# Altium footprint library Diod.PcbLib: 392 footprints (part 16 of 25)
Each footprint in its own frame and in the unit in brackets; x right, y up, seen from the top. Pads: shape width x height; smd on the part's side, far side on the other; paste and mask are expansions set on the pad; w line width, h text height; cw(c..) or ccw(c..) is an arc to the next point about the centre after c.
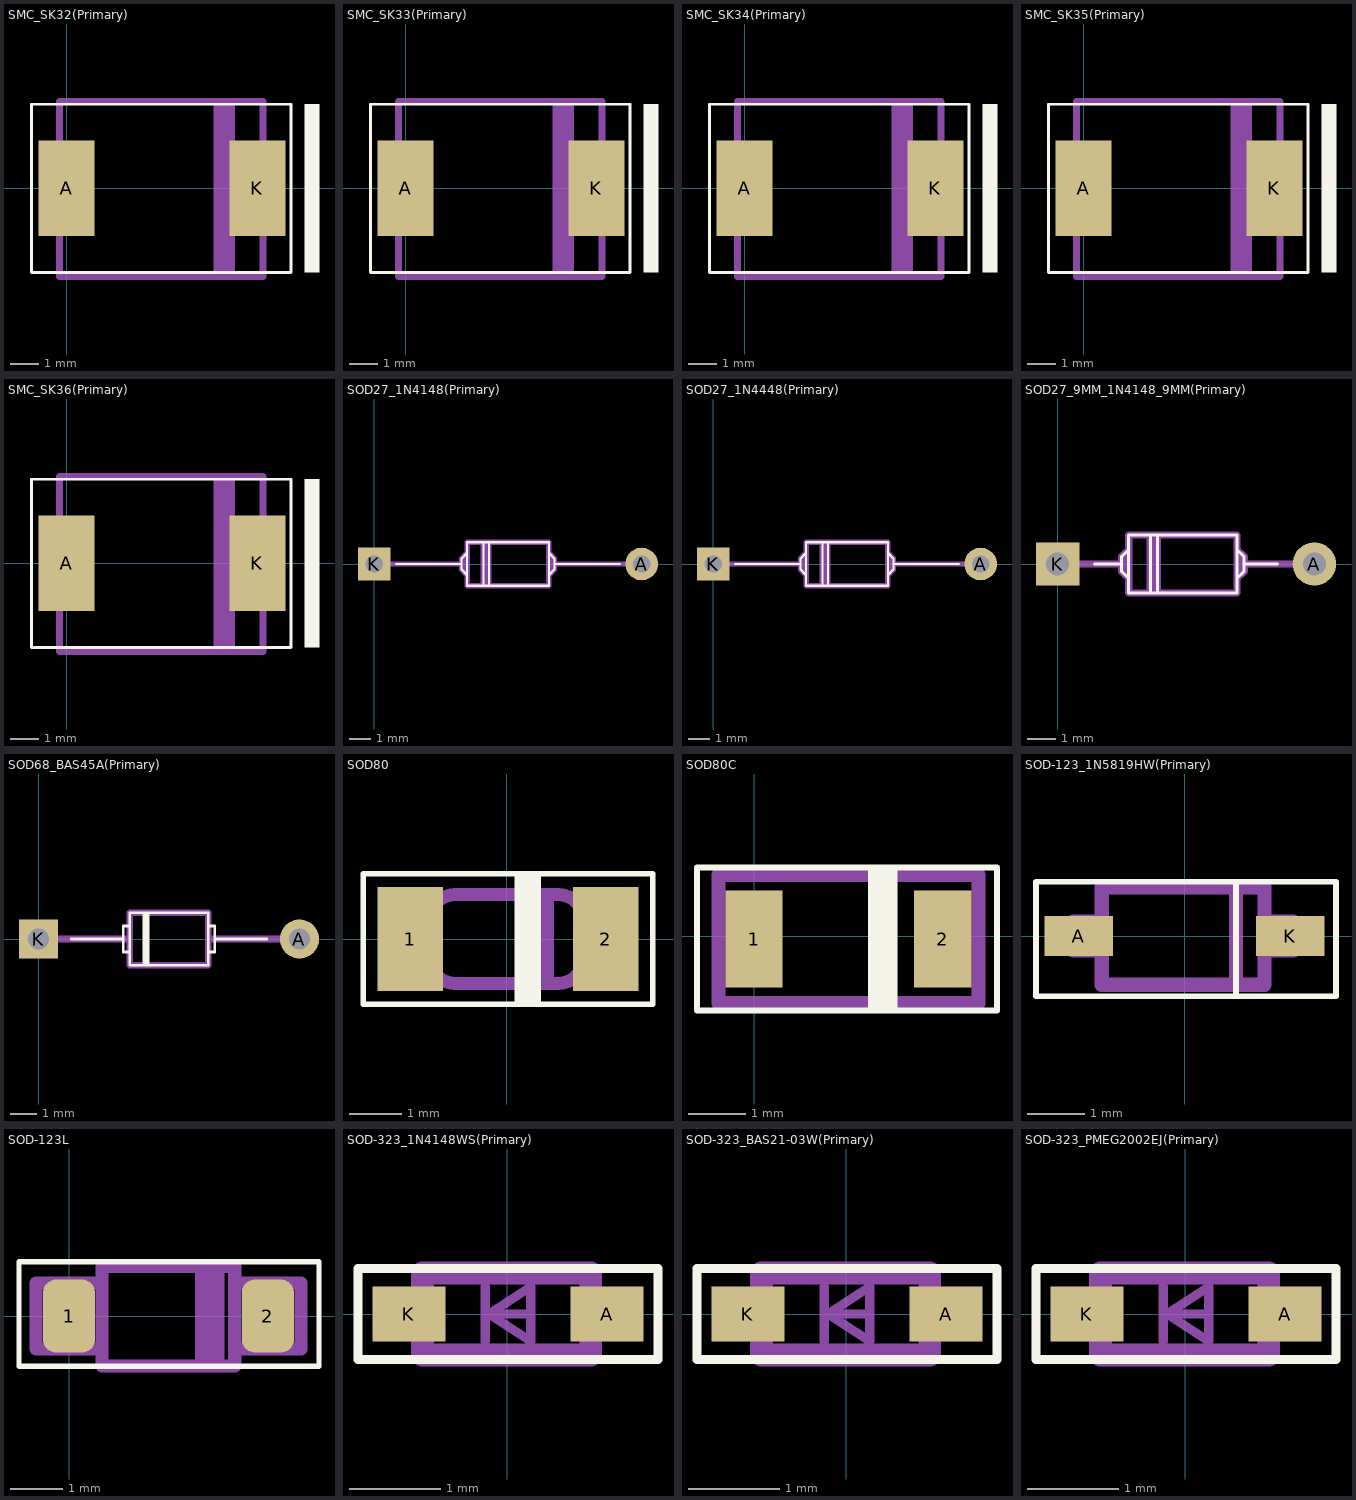
[diagram p15: the footprints below, top view; thin cyan lines are the x and y axes]

## SMC_SK32(Primary) [mm]
pads (2):
  rect 2x3.4 smd: A(0,0) K(6.8,0)
Top Overlay:
  region: 8.5,3 8.5,-3 9,-3 9,3
  lines w0.1: -1.25,-3 8,-3 8,3 -1.25,3 -1.25,-3
Mechanical 1:
  region: 5.25,3 5.25,-3 6,-3 6,3
  lines w0.25: -0.25,-3.15 7,-3.15 7,3.1 -0.25,3.1 -0.25,-3.15

## SMC_SK33(Primary) [mm]
pads (2):
  rect 2x3.4 smd: A(0,0) K(6.8,0)
Top Overlay:
  region: 8.5,3 8.5,-3 9,-3 9,3
  lines w0.1: -1.25,-3 8,-3 8,3 -1.25,3 -1.25,-3
Mechanical 1:
  region: 5.25,3 5.25,-3 6,-3 6,3
  lines w0.25: -0.25,-3.15 7,-3.15 7,3.1 -0.25,3.1 -0.25,-3.15

## SMC_SK34(Primary) [mm]
pads (2):
  rect 2x3.4 smd: A(0,0) K(6.8,0)
Top Overlay:
  region: 8.5,3 8.5,-3 9,-3 9,3
  lines w0.1: -1.25,-3 8,-3 8,3 -1.25,3 -1.25,-3
Mechanical 1:
  region: 5.25,3 5.25,-3 6,-3 6,3
  lines w0.25: -0.25,-3.15 7,-3.15 7,3.1 -0.25,3.1 -0.25,-3.15

## SMC_SK35(Primary) [mm]
pads (2):
  rect 2x3.4 smd: A(0,0) K(6.8,0)
Top Overlay:
  region: 8.5,3 8.5,-3 9,-3 9,3
  lines w0.1: -1.25,-3 8,-3 8,3 -1.25,3 -1.25,-3
Mechanical 1:
  region: 5.25,3 5.25,-3 6,-3 6,3
  lines w0.25: -0.25,-3.15 7,-3.15 7,3.1 -0.25,3.1 -0.25,-3.15

## SMC_SK36(Primary) [mm]
pads (2):
  rect 2x3.4 smd: A(0,0) K(6.8,0)
Top Overlay:
  region: 8.5,3 8.5,-3 9,-3 9,3
  lines w0.1: -1.25,-3 8,-3 8,3 -1.25,3 -1.25,-3
Mechanical 1:
  region: 5.25,3 5.25,-3 6,-3 6,3
  lines w0.25: -0.25,-3.15 7,-3.15 7,3.1 -0.25,3.1 -0.25,-3.15

## SOD27_1N4148(Primary) [mm]
pads (2):
  round 1.5 hole 0.8: A(12.25,0)
  rect 1.5x1.5 hole 0.8: K(0,0)
Top Overlay:
  lines w0.1: 1,0 4,0 ; 5,-1 5,1 ; 5.25,-1 5.25,1 ; 8.25,0 11.25,0 ; 4.25,-0.5 4.25,0.5 ; 4.25,-0.5 4.25,-1 8,-1 8,-0.5 ; 4.25,-0.5 4,-0.25 4,0.25 4.25,0.5 ; 4.25,0.5 4.25,1 8,1 8,0.5 ; 8,-0.5 8,0.5 ; 8,-0.5 8.25,-0.25 8.25,0.25 8,0.5
Mechanical 1:
  lines w0.25: 0,0 4,0 ; 5,-1 5,1 ; 5.25,-1 5.25,1 ; 8.25,0 12.25,0 ; 4.25,-0.5 4.25,0.5 ; 4.25,-0.5 4.25,-1 8,-1 8,-0.5 ; 4.25,-0.5 4,-0.25 4,0.25 4.25,0.5 ; 4.25,0.5 4.25,1 8,1 8,0.5 ; 8,-0.5 8,0.5 ; 8,-0.5 8.25,-0.25 8.25,0.25 8,0.5

## SOD27_1N4448(Primary) [mm]
pads (2):
  round 1.5 hole 0.8: A(12.25,0)
  rect 1.5x1.5 hole 0.8: K(0,0)
Top Overlay:
  lines w0.1: 1,0 4,0 ; 5,-1 5,1 ; 5.25,-1 5.25,1 ; 8.25,0 11.25,0 ; 4.25,-0.5 4.25,0.5 ; 4.25,-0.5 4.25,-1 8,-1 8,-0.5 ; 4.25,-0.5 4,-0.25 4,0.25 4.25,0.5 ; 4.25,0.5 4.25,1 8,1 8,0.5 ; 8,-0.5 8,0.5 ; 8,-0.5 8.25,-0.25 8.25,0.25 8,0.5
Mechanical 1:
  lines w0.25: 0,0 4,0 ; 5,-1 5,1 ; 5.25,-1 5.25,1 ; 8.25,0 12.25,0 ; 4.25,-0.5 4.25,0.5 ; 4.25,-0.5 4.25,-1 8,-1 8,-0.5 ; 4.25,-0.5 4,-0.25 4,0.25 4.25,0.5 ; 4.25,0.5 4.25,1 8,1 8,0.5 ; 8,-0.5 8,0.5 ; 8,-0.5 8.25,-0.25 8.25,0.25 8,0.5

## SOD27_9MM_1N4148_9MM(Primary) [mm]
pads (2):
  round 1.5 hole 0.8: A(8.89,0)
  rect 1.5x1.5 hole 0.8: K(0,0)
Top Overlay:
  lines w0.1: 1.27,0 2.21,0 ; 3.21,-1 3.21,1 ; 3.46,-1 3.46,1 ; 6.46,0 7.62,0 ; 2.46,-0.5 2.46,0.5 ; 2.46,-0.5 2.46,-1 6.21,-1 6.21,-0.5 ; 2.46,-0.5 2.21,-0.25 2.21,0.25 2.46,0.5 ; 2.46,0.5 2.46,1 6.21,1 6.21,0.5 ; 6.21,-0.5 6.21,0.5 ; 6.21,-0.5 6.46,-0.25 6.46,0.25 6.21,0.5
Mechanical 1:
  lines w0.25: 0,0 2.21,0 ; 3.21,-1 3.21,1 ; 3.46,-1 3.46,1 ; 6.46,0 8.89,0 ; 2.46,-0.5 2.46,0.5 ; 2.46,-0.5 2.46,-1 6.21,-1 6.21,-0.5 ; 2.46,-0.5 2.21,-0.25 2.21,0.25 2.46,0.5 ; 2.46,0.5 2.46,1 6.21,1 6.21,0.5 ; 6.21,-0.5 6.21,0.5 ; 6.21,-0.5 6.46,-0.25 6.46,0.25 6.21,0.5

## SOD68_BAS45A(Primary) [mm]
pads (2):
  round 1.5 hole 0.8: A(10,0)
  rect 1.5x1.5 hole 0.8: K(0,0)
Top Overlay:
  region: 4,1 4,-1 4.25,-1 4.25,1
  lines w0.1: 1.25,0 3.25,0 ; 3.5,-0.5 3.25,-0.5 3.25,0.5 3.5,0.5 ; 6.5,-0.5 6.75,-0.5 6.75,0.5 6.5,0.5 ; 6.75,0 8.75,0 ; 3.5,-1 6.5,-1 6.5,1 3.5,1 3.5,-1
Mechanical 1:
  lines w0.25: 0,0 3.5,0 ; 6.5,0 10,0 ; 3.5,-1 6.5,-1 6.5,1 3.5,1 3.5,-1

## SOD80 [mm]
pads (2):
  rect 1.25x2 smd: 1(-1.85,0) 2(1.9,0)
Top Overlay:
  region: 0.15,-1.25 0.65,-1.25 0.65,1.25 0.15,1.25
  lines w0.1: -2.75,-1.25 2.8,-1.25 2.8,1.25 -2.75,1.25 -2.75,-1.25
Mechanical 1:
  region: 0.9,-0.85 0.9,0.85 0.45,0.85 0.45,-0.85
  lines w0.25: -1.45,-0.4 ccw(c-1,-0.4) -1,-0.85 1,-0.85 ccw(c1,-0.4) 1.45,-0.4 ; -1.45,0.4 cw(c-1,0.4) -1,0.85 1,0.85 cw(c1,0.4) 1.45,0.4 ; 0.4,-1 0.4,1 ; 1.45,-0.85 1.45,0.85 1.85,0.85 1.85,-0.85 1.5,-0.85 ; -1.85,-0.85 -1.85,0.85 -1.45,0.85 -1.45,-0.85 -1.85,-0.85

## SOD80C [mm]
pads (2):
  rect 1x1.7 smd: 1(0,-0.05) 2(3.3,-0.05)
Top Overlay:
  region: 2,-1.3 2.5,-1.3 2.5,1.2 2,1.2
  lines w0.1: -1,-1.3 4.25,-1.3 4.25,1.2 -1,1.2 -1,-1.3
Mechanical 1:
  lines w0.25: 2.25,-1.05 2.25,0.95 ; -0.625,-1.175 3.925,-1.175 3.925,1.075 -0.625,1.075 -0.625,-1.175

## SOD-123_1N5819HW(Primary) [mm]
pads (2):
  rect 1.2x0.7 smd: A(-1.85,0) K(1.85,0)
Top Overlay:
  lines w0.1: 0.9,-1.05 0.9,0.95 ; -2.6,-1.05 2.65,-1.05 2.65,0.95 -2.6,0.95 -2.6,-1.05
Mechanical 1:
  lines w0.25: -1.7,-0.25 -1.7,0.25 ; -1.45,-0.25 -1.95,-0.25 -1.95,0 -1.95,0.25 -1.45,0.25 ; 0.9,-0.85 0.9,0.85 ; 1.4,-0.25 1.9,-0.25 1.9,0 1.9,0.25 1.4,0.25 ; 1.65,-0.25 1.65,0.25 ; -1.45,-0.85 1.4,-0.85 1.4,0 1.4,0.85 -1.45,0.85 -1.45,0 -1.45,-0.85

## SOD-123L [mm]
pads (2):
  rrect50% 1x1.4 smd: 1(0,0) 2(3.81,0)
Top Overlay:
  lines w0.1: -0.96,-0.96 4.79,-0.96 4.79,-0.71 4.79,1.04 -0.96,1.04 -0.96,-0.96
Mechanical 1:
  region: 2.54,-0.794 2.699,-0.953 2.857,-0.794 2.857,0.794 2.699,0.953 2.54,0.794
  lines w0.25: 0.635,-0.635 -0.635,-0.635 -0.635,0.635 0.635,0.635 ; 2.54,0.953 2.54,-0.953 2.857,-0.953 2.857,0.953 ; 3.175,-0.635 4.445,-0.635 4.445,0.635 3.175,0.635 ; 0.635,-0.953 3.175,-0.953 3.175,0.953 0.635,0.953 0.635,-0.953

## SOD-323_1N4148WS(Primary) [mm]
pads (2):
  rect 0.8x0.6 smd: A(1.1,0) K(-1.08,0)
Top Overlay:
  lines w0.1: 1.65,-0.5 -1.64,-0.5 -1.64,0.5 1.65,0.5 ; 1.66,-0.5 1.66,0.5
Mechanical 1:
  lines w0.1: -0.24,-0.3 -0.24,0.3 ; -0.24,0 0.26,0 ; -0.2,0 0.26,-0.3 0.26,0.3 -0.2,0
  lines w0.25: 0.9,-0.45 -0.93,-0.45 -0.93,0.45 0.9,0.45 ; 0.92,-0.45 0.92,0.45

## SOD-323_BAS21-03W(Primary) [mm]
pads (2):
  rect 0.8x0.6 smd: A(1.1,0) K(-1.08,0)
Top Overlay:
  lines w0.1: 1.65,-0.5 -1.64,-0.5 -1.64,0.5 1.65,0.5 ; 1.66,-0.5 1.66,0.5
Mechanical 1:
  lines w0.1: -0.24,-0.3 -0.24,0.3 ; -0.24,0 0.26,0 ; -0.2,0 0.26,-0.3 0.26,0.3 -0.2,0
  lines w0.25: 0.9,-0.45 -0.93,-0.45 -0.93,0.45 0.9,0.45 ; 0.92,-0.45 0.92,0.45

## SOD-323_PMEG2002EJ(Primary) [mm]
pads (2):
  rect 0.8x0.6 smd: A(1.1,0) K(-1.08,0)
Top Overlay:
  lines w0.1: 1.65,-0.5 -1.64,-0.5 -1.64,0.5 1.65,0.5 ; 1.66,-0.5 1.66,0.5
Mechanical 1:
  lines w0.1: -0.24,-0.3 -0.24,0.3 ; -0.24,0 0.26,0 ; -0.2,0 0.26,-0.3 0.26,0.3 -0.2,0
  lines w0.25: 0.9,-0.45 -0.93,-0.45 -0.93,0.45 0.9,0.45 ; 0.92,-0.45 0.92,0.45